# EAGLE library part LT3433 (library PowerProducts)
LT-Spice library generated with : ltspice.ulp from: E:/Programme/LTC/LTspiceIV/lib/sym/PowerProducts/LT3050*.asy at 05.10.2012 11:06:37
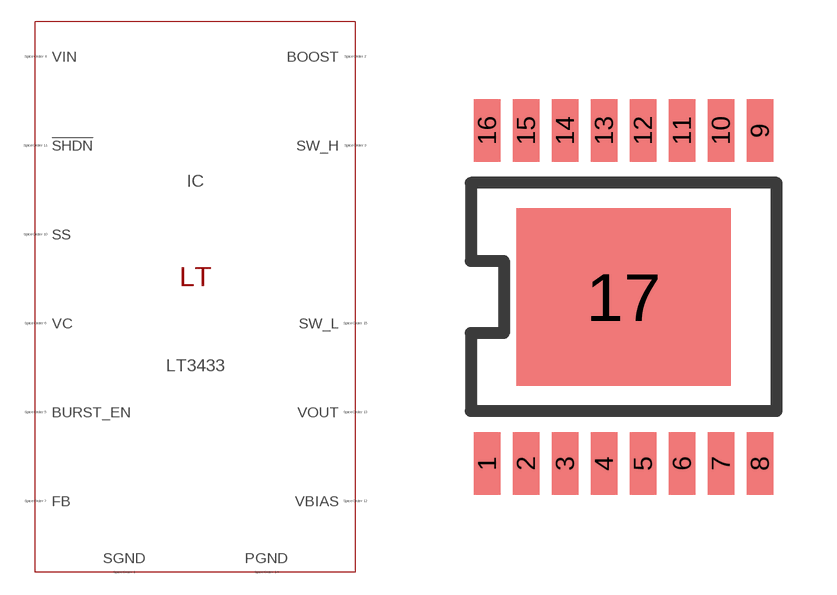
[diagram p4: symbol with the pads of TSSOP16BB(FE); footprint TSSOP16BB(FE)]

Designator prefix IC

## LT3433 (SPICEMODEL: LT1762.lib; SPICEPREFIX: X; VALUE2: LT1762)  [TSSOP16BB(FE)]
1  SGND  pas
2  BOOST  pas
3  SW_H  pas
4  VIN  pas
5  BURST_EN  pas
6  VC  pas
7  FB  pas
8  SGND  pas
9  SGND  pas
10  SS  pas
11  !SHDN  pas
12  VBIAS  pas
13  VOUT  pas
14  PGND  pas
15  SW_L  pas
16  SGND  pas
17  SGND  pas

## Footprint TSSOP16BB(FE) (pad centres in mm)
Package generated from: TSSOP16BB(FE).asc (!PADS-POWERPCB-V5.0-BASIC! DESIGN DATABASE ASCII FILE 1.0) with :import-pads-powerpcb-v5.ulp Version 1.0.1 at 04.10.2012 14:11:39
smd 0.66 x 1.575: 1 -3.413,-4.162; 2 -2.438,-4.162; 3 -1.462,-4.162; 4 -0.487,-4.162; 5 0.487,-4.162; 6 1.462,-4.162; 7 2.438,-4.162; 8 3.413,-4.162; 9 3.413,4.162; 10 2.438,4.162; 11 1.462,4.162; 12 0.487,4.162; 13 -0.487,4.162; 14 -1.462,4.162; 15 -2.438,4.162; 16 -3.413,4.162
smd 5.37 x 4.425: 17 0,0